# Altium integrated library Wi-Fi_Bluetooth.IntLib: 2 symbols
Pins are listed as number, name and electrical type; pins without a type are passive.

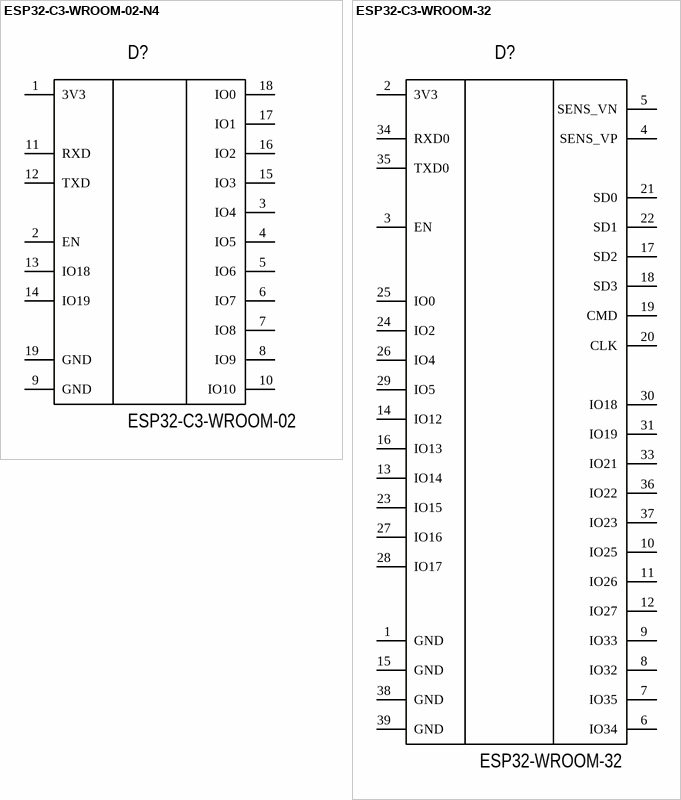
[diagram p0: symbols ESP32-C3-WROOM-02-N4 to ESP32-C3-WROOM-32]

## ESP32-C3-WROOM-02-N4
designator D?, comment ESP32-C3-WROOM-02
Bluetooth, WiFi 802.11b/g/n, Bluetooth v5.0 Transceiver Module 2.4GHz PCB Trace Surface Mount; Manufacture: Espressif Systems; Model: ESP32-C3-WROOM-02-N4; Name: Модуль Wi-Fi, Bluetooth; Case: 32-VFQFN Exposed Pad; HelpURL: https://www.digikey.com/en/products/detail/espressif-systems/ESP32-C3-WROOM-02-N4/14553031; Value: ESP32-C3-WROOM-02
footprint ESP32­C3­WROOM­02 (18.0 x 20.0 x 3.2)
pins: 1 3V3, 2 EN, 3 IO4, 4 IO5, 5 IO6, 6 IO7, 7 IO8, 8 IO9, 9 GND, 10 IO10, 11 RXD, 12 TXD, 13 IO18, 14 IO19, 15 IO3, 16 IO2, 17 IO1, 18 IO0, 19 GND

## ESP32-C3-WROOM-32
designator D?, comment ESP32-WROOM-32
Bluetooth, WiFi Transceiver Module 2.4GHz ~ 2.5GHz - Surface Mount; Manufacture: Espressif Systems; Name: Модуль Wi-Fi, Bluetooth; Case: 38-SMD Module; HelpURL: https://www.digikey.com/en/products/detail/espressif-systems/ESP32-WROOM-32/8544298; Model: ESP32-WROOM-32; Value: ESP32-WROOM-32
footprint ESP32­C3­WROOM­32 ((18.00±0.10) mm x (25.50±0.10) mm x (3.10±0.10) mm)
pins: 1 GND, 2 3V3, 3 EN, 4 SENS_VP, 5 SENS_VN, 6 IO34, 7 IO35, 8 IO32, 9 IO33, 10 IO25, 11 IO26, 12 IO27, 13 IO14, 14 IO12, 15 GND, 16 IO13, 17 SD2, 18 SD3, 19 CMD, 20 CLK, 21 SD0, 22 SD1, 23 IO15, 24 IO2, 25 IO0, 26 IO4, 27 IO16, 28 IO17, 29 IO5, 30 IO18, 31 IO19, 33 IO21, 34 RXD0, 35 TXD0, 36 IO22, 37 IO23, 38 GND, 39 GND